# Altium footprint library ULV2G100MNL1GS.PcbLib: 1 footprints
Each footprint in its own frame and in the unit in brackets; x right, y up, seen from the top. Pads: shape width x height; smd on the part's side, far side on the other; paste and mask are expansions set on the pad; w line width, h text height; cw(c..) or ccw(c..) is an arc to the next point about the centre after c.
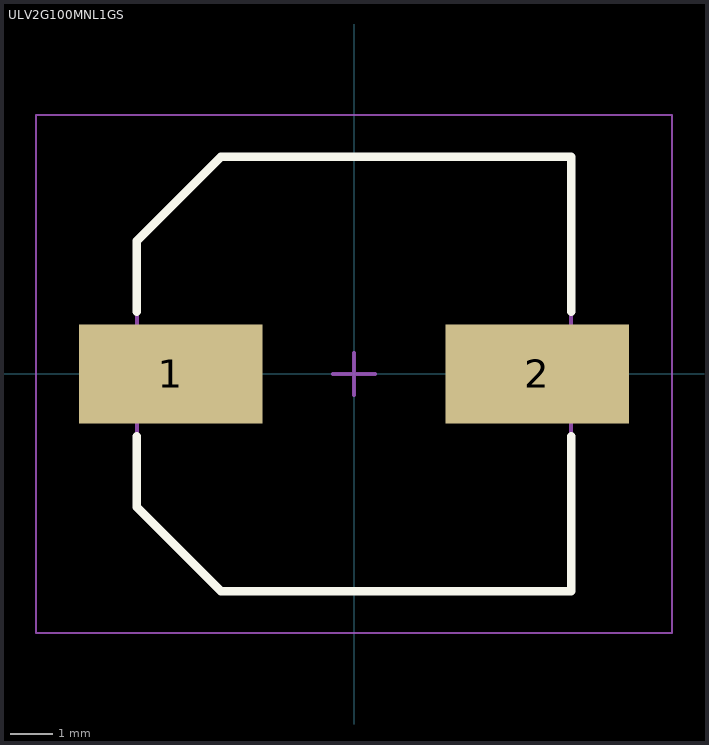
[diagram p0: the footprint, top view; thin cyan lines are the x and y axes]

## ULV2G100MNL1GS [mm] "Aluminum Electrolytic Capacitor, Body 10.30x10.30x13.50mm, IPC Low Density"
height 13.5
pads (2):
  rect 4.35x2.35 smd: 1(-4.35,0) 2(4.35,0)
Top Overlay:
  lines w0.2: -5.15,-1.475 -5.15,-3.163 -3.162,-5.15 5.15,-5.15 5.15,-1.475 ; -5.15,1.475 -5.15,3.162 -3.162,5.15 5.15,5.15 5.15,1.475
Mechanical 13:
  lines w0.1: -5.15,-3.163 -5.15,3.162 -3.162,5.15 5.15,5.15 5.15,-5.15 -3.162,-5.15 -5.15,-3.163
Mechanical 15:
  lines w0.05: -7.55,-6.15 7.55,-6.15 7.55,6.15 -7.55,6.15 -7.55,-6.15
  lines w0.1: -0.5,0 0.5,0 ; 0,-0.5 0,0.5
3D body: height 13.5, standoff 0, extent -5,-5 5,5
3D body: height 4.5, standoff 0, extent -5.15,-5.15 5.15,5.15